# Altium footprint library CAPACITOR_TAN_SMD.PcbLib: 1 footprints
Each footprint in its own frame and in the unit in brackets; x right, y up, seen from the top. Pads: shape width x height; smd on the part's side, far side on the other; paste and mask are expansions set on the pad; w line width, h text height; cw(c..) or ccw(c..) is an arc to the next point about the centre after c.
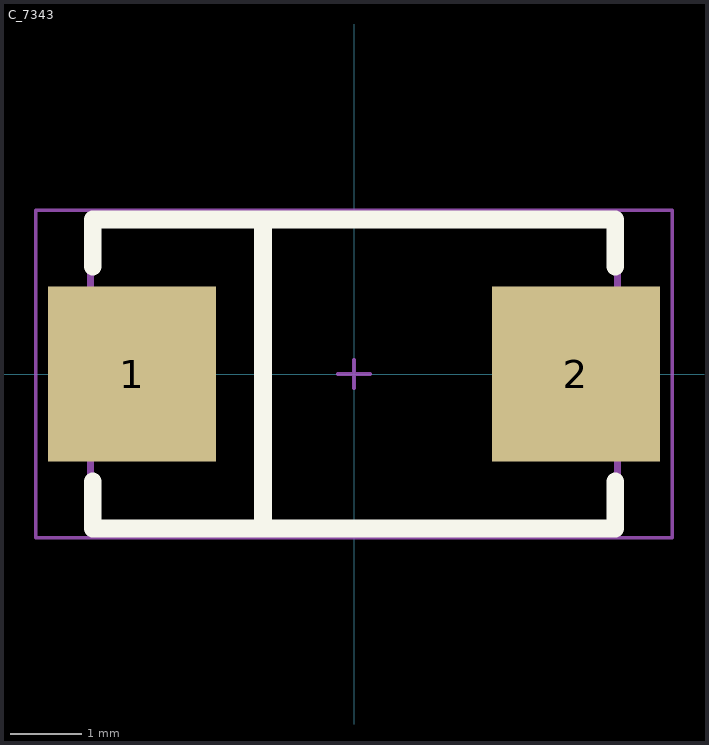
[diagram p0: the footprint, top view; thin cyan lines are the x and y axes]

## C_7343 [mm]
pads (2):
  rect 2.35x2.45 smd: 1(-3.1,0) 2(3.1,0)
Top Overlay:
  lines w0.25: -3.65,-1.5 -3.65,-2.159 3.65,-2.159 3.65,-1.5 ; -3.65,1.5 -3.65,2.159 3.65,2.159 3.65,1.5 ; -1.27,-2.159 -1.27,2.159
Mechanical 13:
  lines w0.1: -3.683,-2.159 3.683,-2.159 3.683,2.159 -3.683,2.159 -3.683,-2.159
Mechanical 15:
  lines w0.05: -0.225,0 0.225,0 ; 0,-0.2 0,0.2 ; -4.445,-2.286 4.445,-2.286 4.445,2.286 -4.445,2.286 -4.445,-2.286
3D body "step_temp.STEP": height 3.1, standoff 0, extent -3.65,-2.15 3.65,2.15